# Altium schematic symbol library PIC32MX130F256D-I_PT.SchLib: 1 symbol
Pins are listed as number, name and electrical type; pins without a type are passive.

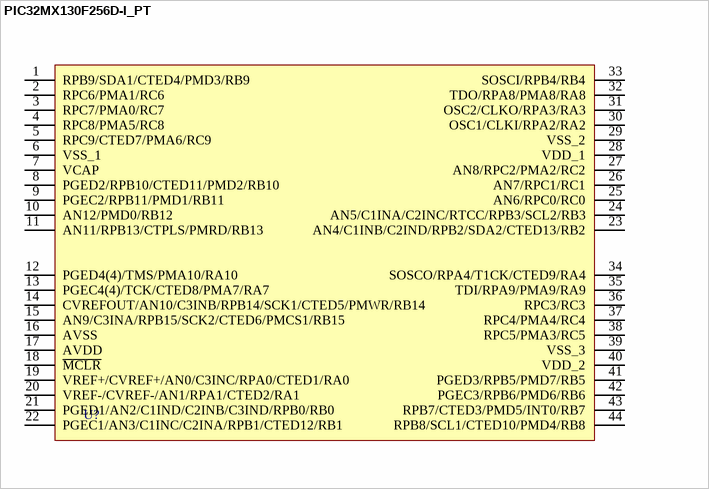
[diagram p0: symbol PIC32MX130F256D-I_PT]

## PIC32MX130F256D-I_PT
designator U?
Microchip PIC32MX130F256D-I/PT, 32bit PIC Microcontroller, 40MHz, 256 kB Flash, 44-Pin TQFP; Geometry.Height: 1.2mm; Mouser Part Number: 579-MX130F256DIPT; Mouser Price/Stock: https://www.mouser.co.uk/ProductDetail/Microchip-Technology/PIC32MX130F256D-I-PT?qs=XR%2FfMt4sL%252BEhDQElh0Q%2FjQ%3D%3D; Manufacturer_Name: Microchip; Manufacturer_Part_Number: PIC32MX130F256D-I/PT; Datasheet Link: https://componentsearchengine.com/Datasheets/5/PIC32MX130F256D-I_PT.pdf
footprint QFP80P1200X1200X120-44N
pins: 1 RPB9/SDA1/CTED4/PMD3/RB9, 2 RPC6/PMA1/RC6, 3 RPC7/PMA0/RC7, 4 RPC8/PMA5/RC8, 5 RPC9/CTED7/PMA6/RC9, 6 VSS_1, 7 VCAP, 8 PGED2/RPB10/CTED11/PMD2/RB10, 9 PGEC2/RPB11/PMD1/RB11, 10 AN12/PMD0/RB12, 11 AN11/RPB13/CTPLS/PMRD/RB13, 12 PGED4(4)/TMS/PMA10/RA10, 13 PGEC4(4)/TCK/CTED8/PMA7/RA7, 14 CVREFOUT/AN10/C3INB/RPB14/SCK1/CTED5/PMWR/RB14, 15 AN9/C3INA/RPB15/SCK2/CTED6/PMCS1/RB15, 16 AVSS, 17 AVDD, 18 ~{MCLR}, 19 VREF+/CVREF+/AN0/C3INC/RPA0/CTED1/RA0, 20 VREF-/CVREF-/AN1/RPA1/CTED2/RA1, 21 PGED1/AN2/C1IND/C2INB/C3IND/RPB0/RB0, 22 PGEC1/AN3/C1INC/C2INA/RPB1/CTED12/RB1, 23 AN4/C1INB/C2IND/RPB2/SDA2/CTED13/RB2, 24 AN5/C1INA/C2INC/RTCC/RPB3/SCL2/RB3, 25 AN6/RPC0/RC0, 26 AN7/RPC1/RC1, 27 AN8/RPC2/PMA2/RC2, 28 VDD_1, 29 VSS_2, 30 OSC1/CLKI/RPA2/RA2, 31 OSC2/CLKO/RPA3/RA3, 32 TDO/RPA8/PMA8/RA8, 33 SOSCI/RPB4/RB4, 34 SOSCO/RPA4/T1CK/CTED9/RA4, 35 TDI/RPA9/PMA9/RA9, 36 RPC3/RC3, 37 RPC4/PMA4/RC4, 38 RPC5/PMA3/RC5, 39 VSS_3, 40 VDD_2, 41 PGED3/RPB5/PMD7/RB5, 42 PGEC3/RPB6/PMD6/RB6, 43 RPB7/CTED3/PMD5/INT0/RB7, 44 RPB8/SCL1/CTED10/PMD4/RB8